# Altium schematic symbol library Capacitor Non-Polarized Single.SchLib: 1 symbol
Pins are listed as number, name and electrical type; pins without a type are passive.

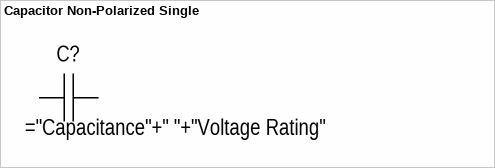
[diagram p0: symbol Capacitor Non-Polarized Single]

## Capacitor Non-Polarized Single
designator C?
pins: 1, 2